# Altium footprint library custom-case.PcbLib: 30 footprints (part 1 of 2)
Each footprint in its own frame and in the unit in brackets; x right, y up, seen from the top. Pads: shape width x height; smd on the part's side, far side on the other; paste and mask are expansions set on the pad; w line width, h text height; cw(c..) or ccw(c..) is an arc to the next point about the centre after c.
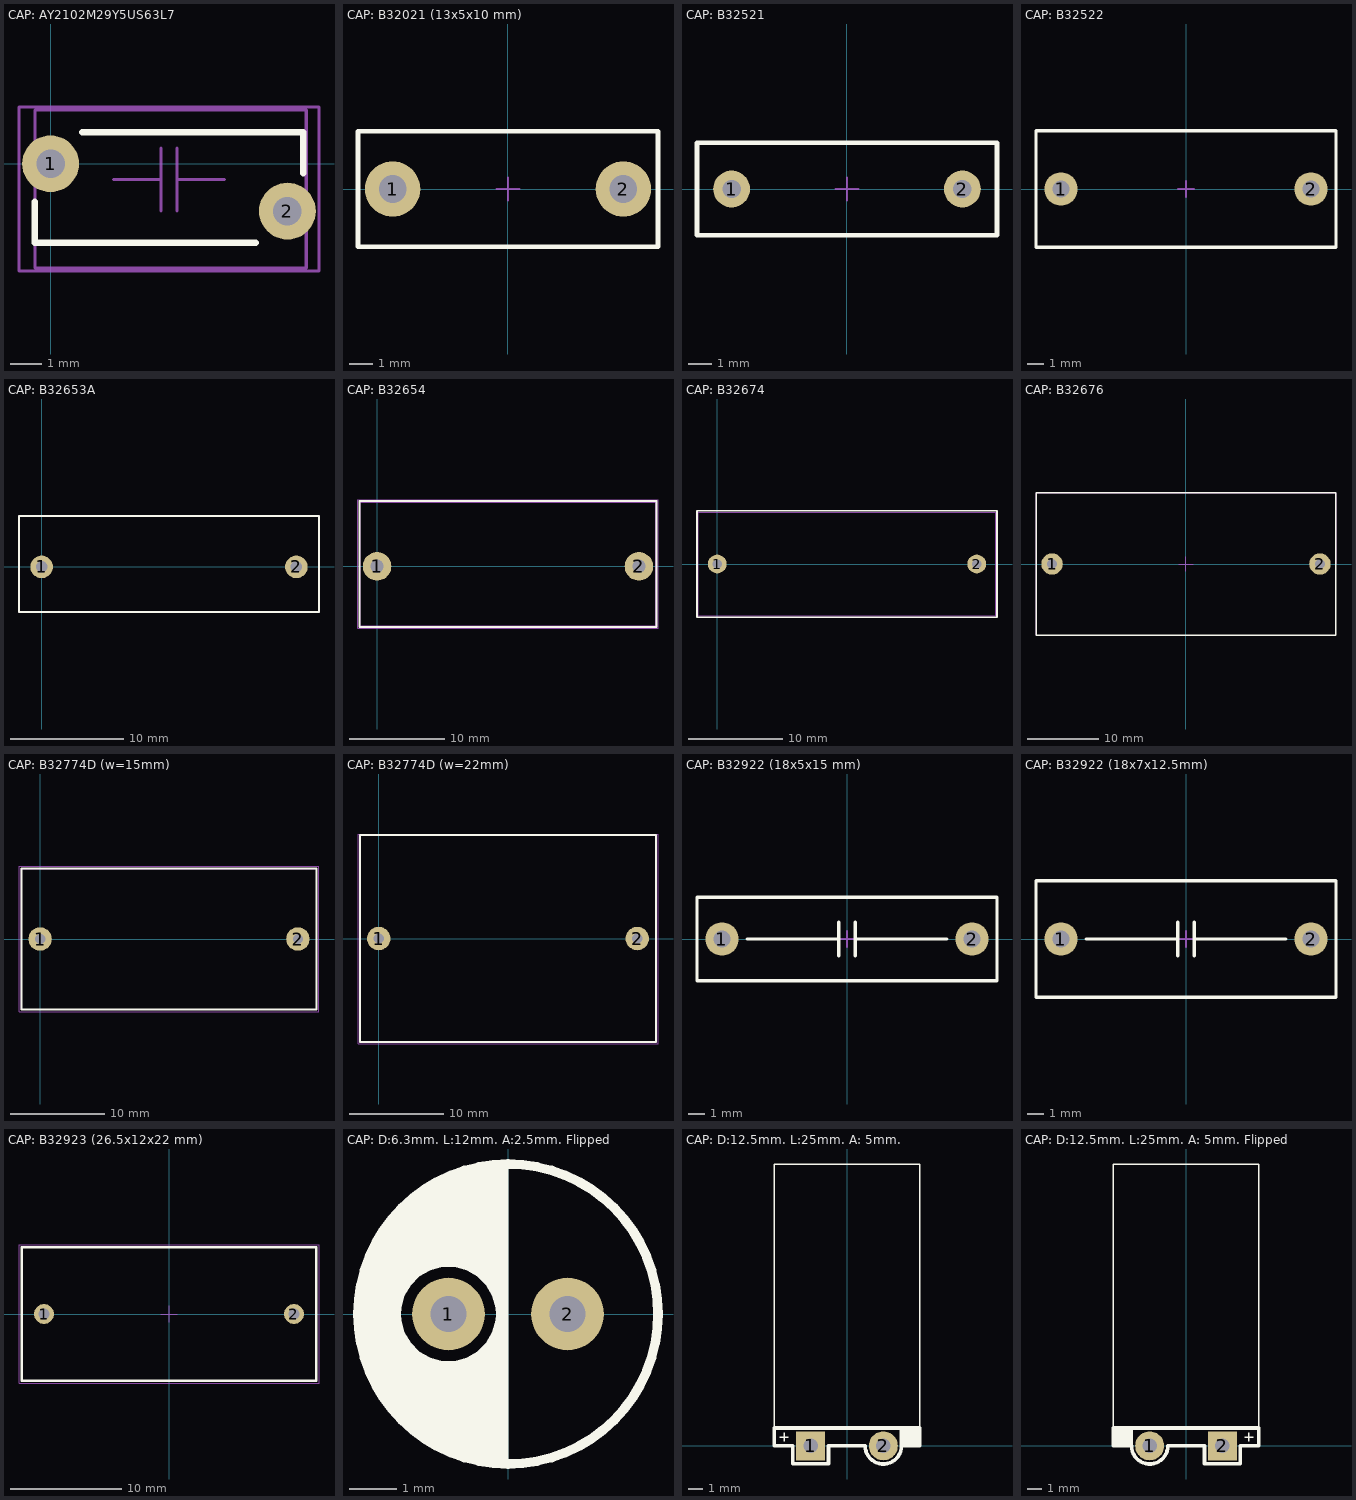
[diagram p0: the footprints below, top view; thin cyan lines are the x and y axes]

## CAP: AY2102M29Y5US63L7 [mm]
pads (2):
  round 1.8 hole 0.9: 1(0,0) 2(7.5,-1.5)
Top Overlay:
  lines w0.2: -0.497,-1.2 -0.497,-2.5 6.5,-2.5 ; 1,1 7.997,1 7.997,-0.3
Top Assy:
  lines w0.1: 2,-0.5 3.5,-0.5 ; 3.5,-1.5 3.5,0.5 ; 4,-1.5 4,0.5 ; 4,-0.5 5.5,-0.5 ; -0.497,-3.3 8.097,-3.3 8.097,1.7 -0.497,1.7 -0.497,-3.3
Size Area:
  lines w0.1: -1,-3.4 8.5,-3.4 8.5,1.8 -1,1.8 -1,-3.4
3D body "6666.STEP": height 10.75, standoff -1.75, extent -0.5,-3.3 8.1,1.7

## CAP: B32021 (13x5x10 mm) [mm]
pads (2):
  round 2.4 hole 1.2: 1(-5,0) 2(5,0)
Top Overlay:
  lines w0.2: -6.5,-2.5 6.5,-2.5 6.5,2.5 -6.5,2.5 -6.5,-2.5
Top Assy:
  lines w0.1: -6.5,-2.5 6.5,-2.5 6.5,2.5 -6.5,2.5 -6.5,-2.5
Size Area:
  lines w0.1: -0.5,0 0.5,0 ; 0,-0.5 0,0.5 ; -6.5,-2.5 -6.5,2.5 6.5,2.5 6.5,-2.5 -6.5,-2.5
3D body "CAPRR1000W60L1300T500H1100.STEP": height 10.7, standoff -2.75, extent -6.5,-2.5 6.5,2.5

## CAP: B32521 [mm]
pads (2):
  round 1.6 hole 0.8: 1(-5,0) 2(5,0)
Top Overlay:
  lines w0.2: -6.5,-2 6.5,-2 6.5,2 -6.5,2 -6.5,-2
Top Assy:
  lines w0.1: -6.5,-2 -6.5,2 6.5,2 6.5,-2 -6.5,-2
Size Area:
  lines w0.1: -0.5,0 0.5,0 ; 0,-0.5 0,0.5 ; -6.5,-2 -6.5,2 6.5,2 6.5,-2 -6.5,-2
3D body "B32521.STEP": height 9, standoff -3, extent -6.5,-2 6.5,2

## CAP: B32522 [mm]
pads (2):
  round 2 hole 1: 1(-7.5,0) 2(7.5,0)
Top Overlay:
  lines w0.2: -9,-3.5 9,-3.5 9,3.5 -9,3.5 -9,0 -9,-3.5
Top Assy:
  lines w0.1: -9,-3.5 9,-3.5 9,3.5 -9,3.5 -9,-3.5
Size Area:
  lines w0.1: -0.5,0 0.5,0 ; 0,-0.5 0,0.5 ; -9,-3.5 -9,3.5 9,3.5 9,-3.5 -9,-3.5
3D body "B32522.stp": height 12.51, standoff -4, extent -9,-3.5 9,3.5

## CAP: B32653A [mm]
pads (2):
  round 2 hole 1: 1(0,0) 2(22.5,0)
Top Overlay:
  lines w0.2: -2,-4 24.5,-4 24.5,4.5 -2,4.5 -2,-4
Top Assy:
  lines w0.1: -2,-4 24.5,-4 24.5,4.5 -2,4.5 -2,-4
Size Area:
  lines w0.1: -2,-4 24.5,-4 24.5,4.5 -2,4.5 -2,-4
3D body "6.STEP": height 16.5, standoff -2.5, extent -2,-4 24.5,4.5

## CAP: B32654 [mm]
pads (2):
  round 3 hole 1.4: 1(0,0) 2(27.5,0)
Top Overlay:
  lines w0.2: -1.85,-6.35 29.35,-6.35 29.35,6.85 -1.85,6.85 -1.85,-6.35
Top Assy:
  lines w0.1: -1.75,-6.25 29.25,-6.25 29.25,6.75 -1.75,6.75 -1.75,-6.25
Size Area:
  lines w0.1: -2,-6.5 -2,7 29.5,7 29.5,-6.5 -2,-6.5
3D body "User Library-Vishay_1uF-400V_MKT_373_STD_27_5pitch.STEP": height 23, standoff -3, extent -1.75,-6.25 29.25,6.75

## CAP: B32674 [mm]
pads (2):
  round 2 hole 1: 1(0,0) 2(27.5,0)
Top Overlay:
  lines w0.2: -2.15,-5.65 29.65,-5.65 29.65,5.65 -2.15,5.65 -2.15,-5.65
Top Assy:
  lines w0.1: -2,-5.5 -2,5.5 29.5,5.5 29.5,-5.5 -2,-5.5
Size Area:
  lines w0.1: -2,-5.5 -2,5.5 29.5,5.5 29.5,-5.5 -2,-5.5
3D body "B32674.STEP": height 19, standoff -3, extent -2,-5.5 29.5,5.5

## CAP: B32676 [mm]
pads (2):
  round 3 hole 1.4: 1(-18.75,0) 2(18.75,0)
Top Overlay:
  lines w0.2: -21,-10 -21,10 21,10 21,-10 -21,-10
Top Assy:
  lines w0.1: -21,-10 21,-10 21,10 -21,10 -21,-10
Size Area:
  lines w0.1: -1,0 1,0 ; 0,-1 0,1 ; -21,-10 21,-10 21,10 -21,10 -21,-10
3D body "B32676.STEP": height 39.55, standoff -3, extent -21,-10 21,10

## CAP: B32774D (w=15mm) [mm]
pads (2):
  round 2.5 hole 1.1: 1(0,0) 2(27.5,0)
Top Overlay:
  lines w0.2: -2,-7.5 29.5,-7.5 29.5,7.5 -2,7.5 -2,-7.5
Top Assy:
  lines w0.1: -2,-7.5 29.5,-7.5 29.5,7.5 -2,7.5 -2,-7.5
Size Area:
  lines w0.1: -2.25,-7.75 29.75,-7.75 29.75,7.75 -2.25,7.75 -2.25,-7.75
3D body "2.STEP": height 24.55, standoff -2.95, extent -2,-7.5 29.5,7.5

## CAP: B32774D (w=22mm) [mm]
pads (2):
  round 2.5 hole 1.1: 1(0,0) 2(27.5,0)
Top Overlay:
  lines w0.2: -2,-11 29.5,-11 29.5,11 -2,11 -2,-11
Top Assy:
  lines w0.1: -2,-11 -2,11 29.5,11 29.5,-11 -2,-11
Size Area:
  lines w0.1: -2.2,-11.2 29.7,-11.2 29.7,11.1 -2.2,11.1 -2.2,-11.2
3D body "B32774D (w=22mm).STEP": height 36.5, standoff -3, extent -2,-11 29.5,11

## CAP: B32922 (18x5x15 mm) [mm]
pads (2):
  round 2 hole 1 mask+0.075: 1(-7.5,0) 2(7.5,0)
Top Overlay:
  lines w0.2: -6,0 -0.5,0 ; -0.5,-1 -0.5,1 ; 0.5,-1 0.5,1 ; 0.5,0 6,0 ; -9,-2.5 9,-2.5 9,2.5 -9,2.5 -9,-2.5
Top Assy:
  lines w0.1: -6,0 -0.5,0 ; -0.5,-1 -0.5,1 ; 0.5,-1 0.5,1 ; 0.5,0 6,0 ; -9,-2.5 -9,2.5 9,2.5 9,-2.5 -9,-2.5
Size Area:
  lines w0.1: -0.5,0 0.5,0 ; 0,-0.5 0,0.5 ; -9,-2.5 -9,2.5 9,2.5 9,-2.5 -9,-2.5
3D body "B32922C (18х5х15).STEP": height 15, standoff -4, extent -9,-2.5 9,2.5

## CAP: B32922 (18x7x12.5mm) [mm]
pads (2):
  round 2 hole 1 mask+0.075: 1(-7.5,0) 2(7.5,0)
Top Overlay:
  lines w0.2: -6,0 -0.5,0 ; -0.5,-1 -0.5,1 ; 0.5,-1 0.5,1 ; 0.5,0 6,0 ; -9,-3.5 -9,3.5 9,3.5 9,-3.5 -9,-3.5
Top Assy:
  lines w0.1: -6,0 -0.5,0 ; -0.5,-1 -0.5,1 ; 0.5,-1 0.5,1 ; 0.5,0 6,0 ; -9,-3.5 9,-3.5 9,3.5 -9,3.5 -9,-3.5
Size Area:
  lines w0.1: -0.5,0 0.5,0 ; 0,-0.5 0,0.5 ; -9,-3.5 9,-3.5 9,3.5 -9,3.5 -9,-3.5
3D body "6666.STEP": height 12.5, standoff -4, extent -9,-3.5 9,3.5

## CAP: B32923 (26.5x12x22 mm) [mm]
pads (2):
  round 1.8 hole 1: 1(-11.25,0) 2(11.25,0)
Top Overlay:
  lines w0.2: -13.25,-6 13.25,-6 13.25,6 -13.25,6 -13.25,-6
Top Assy:
  lines w0.1: -13.25,-6 -13.25,6 13.25,6 13.25,-6 -13.25,-6
Size Area:
  lines w0.1: -0.75,0 0.75,0 ; 0,-0.75 0,0.75 ; -13.5,-6.25 13.5,-6.25 13.5,6.25 -13.5,6.25 -13.5,-6.25
3D body "B32923.STEP": height 22, standoff -3, extent -13.25,-6 13.25,6

## CAP: D:6.3mm. L:12mm. A:2.5mm. Flipped [mm]
pads (2):
  round 1.524 / inner round 1.524 / far side round 0 hole 0.75 unplated: 1(-1.25,0) 2(1.25,0)
Top Overlay:
  circle w0.2: c0,0 r3.15
  region: -3.15,0 -3.15,0.206 -3.096,0.616 -2.989,1.015 -2.831,1.396 -2.625,1.754 -2.373,2.081 -2.081,2.373 -1.754,2.625 -1.396,2.831 -1.015,2.989 -0.616,3.096 -0.206,3.15 0,3.15 0,0 -0.25,0 -0.259,0.131 -0.326,0.383 -0.457,0.609 -0.641,0.793 -0.867,0.924 -1.119,0.991 -1.381,0.991 -1.633,0.924 -1.859,0.793 -2.043,0.609 -2.174,0.383 -2.241,0.131 -2.25,0
  region: -3.15,0 -3.15,-0.206 -3.096,-0.616 -2.989,-1.015 -2.831,-1.396 -2.625,-1.754 -2.373,-2.081 -2.081,-2.373 -1.754,-2.625 -1.396,-2.831 -1.015,-2.989 -0.616,-3.096 -0.206,-3.15 0,-3.15 0,0 -0.25,0 -0.259,-0.131 -0.326,-0.383 -0.457,-0.609 -0.641,-0.793 -0.867,-0.924 -1.119,-0.991 -1.381,-0.991 -1.633,-0.924 -1.859,-0.793 -2.043,-0.609 -2.174,-0.383 -2.241,-0.131 -2.25,0
3D body "User Library-ECAP6_3_12_25.SLDPRT": height 0.8, standoff -13.5, extent -3.15,-3.141 3.15,3.141

## CAP: D:12.5mm. L:25mm. A: 5mm. [mm] "Electrolytic capacitor"
pads (2):
  rect 2x2 hole 1: 1(-2.5,0)
  round 2 hole 1: 2(2.5,0)
Top Overlay:
  rectangle: 3.65,0 5,1.16
  lines w0.1: -4.999,0 -4.999,19.4 5,19.4 5,0 ; -4.63,0.6 -4.33,0.6 ; -4.33,0.3 -4.33,0.6 ; -4.33,0.9 -4.33,0.6 ; -4.03,0.6 -4.33,0.6
  lines w0.254: 3.75,1.09 3.75,0 ; 3.75,0 cw(c2.5,0) 1.25,0 -1.27,0 -1.27,-1.23 -3.73,-1.23 -3.73,0 -5,0 -5,1.23 5,1.23 5,0 3.75,0
3D body "ELCAP16V2200mF.SLDPRT": height 13, standoff -2, extent -5.018,-0.33 4.98,19.364

## CAP: D:12.5mm. L:25mm. A: 5mm. Flipped [mm] "Electrolytic capacitor"
pads (2):
  round 2 / inner round 2 / far side round 0 hole 1 unplated paste-2539.97: 1(-2.5,0)
  rect 2x2 / inner rect 2x2 / far side rect 0x0 hole 1 unplated paste-2539.97: 2(2.5,0)
Top Overlay:
  region: -3.65,1.16 -5,1.16 -5,0 -3.65,0
  lines w0.1: -4.999,0 -4.999,19.4 5,19.4 5,0 ; 4.03,0.6 4.33,0.6 ; 4.33,0.3 4.33,0.6 ; 4.33,0.9 4.33,0.6 ; 4.63,0.6 4.33,0.6
  lines w0.254: -5,0 -3.75,0 ccw(c-2.5,0) -1.25,0 1.27,0 1.27,-1.23 3.73,-1.23 3.73,0 5,0 5,1.23 -5,1.23 -5,0
Bottom Overlay:
3D body "ELCAP16V2200mF.SLDPRT": height 2, standoff -13, extent -5.02,-0.33 4.978,19.364